# Altium footprint library MOLEX_2137160001.PcbLib: 1 footprints
Each footprint in its own frame and in the unit in brackets; x right, y up, seen from the top. Pads: shape width x height; smd on the part's side, far side on the other; paste and mask are expansions set on the pad; w line width, h text height; cw(c..) or ccw(c..) is an arc to the next point about the centre after c.
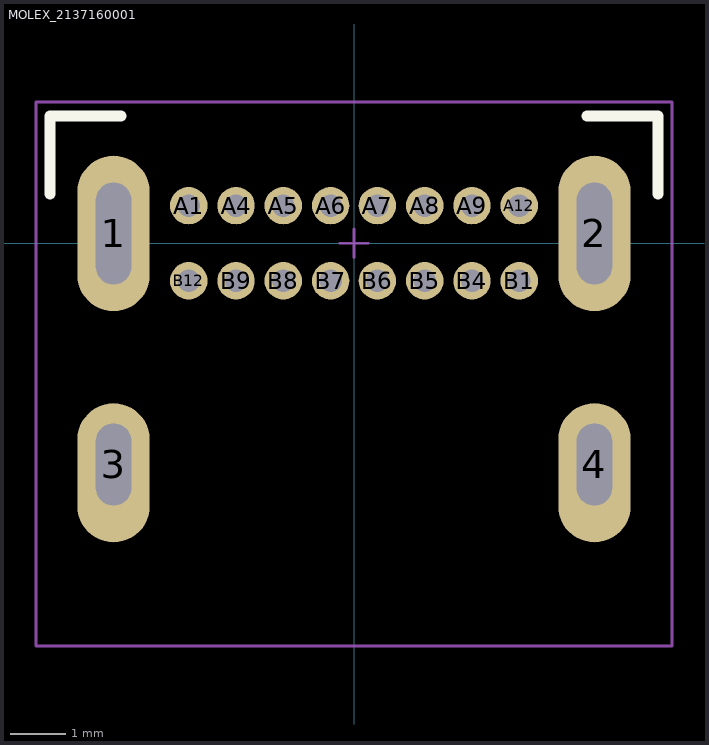
[diagram p0: the footprint, top view; thin cyan lines are the x and y axes]

## MOLEX_2137160001 [mm]
pads (20):
  oval 1.3x2.794 hole 0.635 slot 1.829 at 90 deg: 1(-4.32,0.175) 2(4.32,0.175)
  oval 1.3x2.5 hole 0.635 slot 1.473 at 90 deg copper offset 0,-0.15: 3(-4.32,-3.975) 4(4.32,-3.975)
  round 0.673 hole 0.4: A1(-2.97,0.675) A4(-2.12,0.675) A5(-1.27,0.675) A6(-0.42,0.675) A7(0.42,0.675) A8(1.27,0.675) A9(2.12,0.675) A12(2.97,0.675) B1(2.97,-0.675) B4(2.12,-0.675) B5(1.27,-0.675) B6(0.42,-0.675) B7(-0.42,-0.675) B8(-1.27,-0.675) B9(-2.12,-0.675) B12(-2.97,-0.675)
Top Overlay:
  lines w0.2: -5.461,0.889 -5.461,2.286 -4.191,2.286 ; 4.191,2.286 5.461,2.286 5.461,0.889
Mechanical 15:
  lines w0.05: -0.254,0 0.254,0 ; 0,-0.254 0,0.254 ; -5.715,-7.239 5.715,-7.239 5.715,2.54 -5.715,2.54 -5.715,-7.239
3D body "2137160001.stp": height 3.37, standoff -0.99, extent -4.82,-7.395 4.82,1.575